# Altium footprint library TPS2121RUXR.PcbLib: 1 footprints
Each footprint in its own frame and in the unit in brackets; x right, y up, seen from the top. Pads: shape width x height; smd on the part's side, far side on the other; paste and mask are expansions set on the pad; w line width, h text height; cw(c..) or ccw(c..) is an arc to the next point about the centre after c.
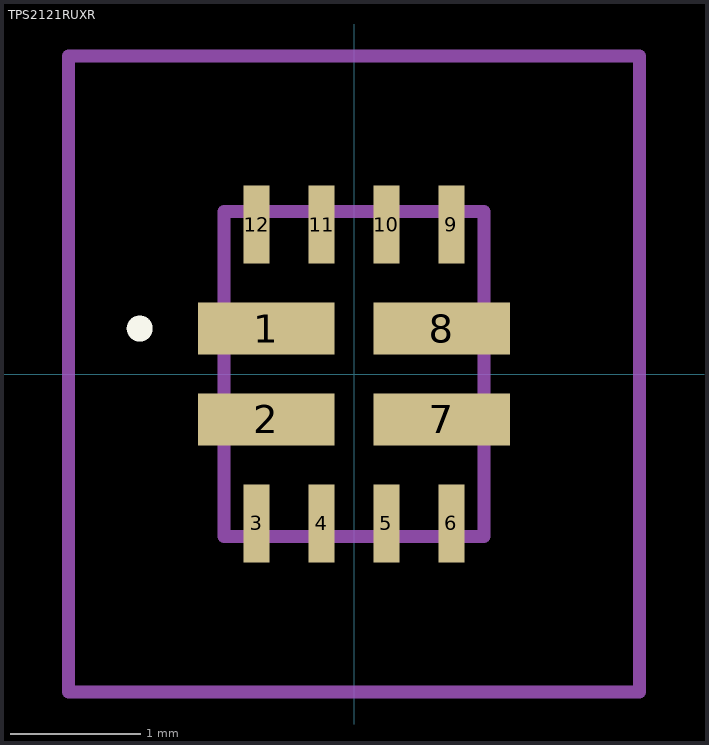
[diagram p0: the footprint, top view; thin cyan lines are the x and y axes]

## TPS2121RUXR [mm]
pads (12):
  rect 1.05x0.4 smd: 1(-0.675,0.35) 2(-0.675,-0.35) 7(0.675,-0.35) 8(0.675,0.35)
  rect 0.2x0.6 smd: 3(-0.75,-1.15) 4(-0.25,-1.15) 5(0.25,-1.15) 6(0.75,-1.15) 9(0.75,1.15) 10(0.25,1.15) 11(-0.25,1.15) 12(-0.75,1.15)
Top Overlay:
  lines w0.1: -1.7,0.35 cw(c-1.65,0.35) -1.6,0.35 ; -1.7,0.35 -1.7,0.35 ; -1.7,0.35 ccw(c-1.65,0.35) -1.6,0.35 ; -1.6,0.35 -1.6,0.35
Mechanical 15:
  lines w0.1: -1,-1.25 1,-1.25 1,1.25 -1,1.25 -1,-1.25
Mechanical 20:
  lines w0.1: -2.2,-2.45 2.2,-2.45 2.2,2.45 -2.2,2.45 -2.2,-2.45